# Altium integrated library Renesas Microcontroller H8S.IntLib: 670 symbols (part 12 of 70)
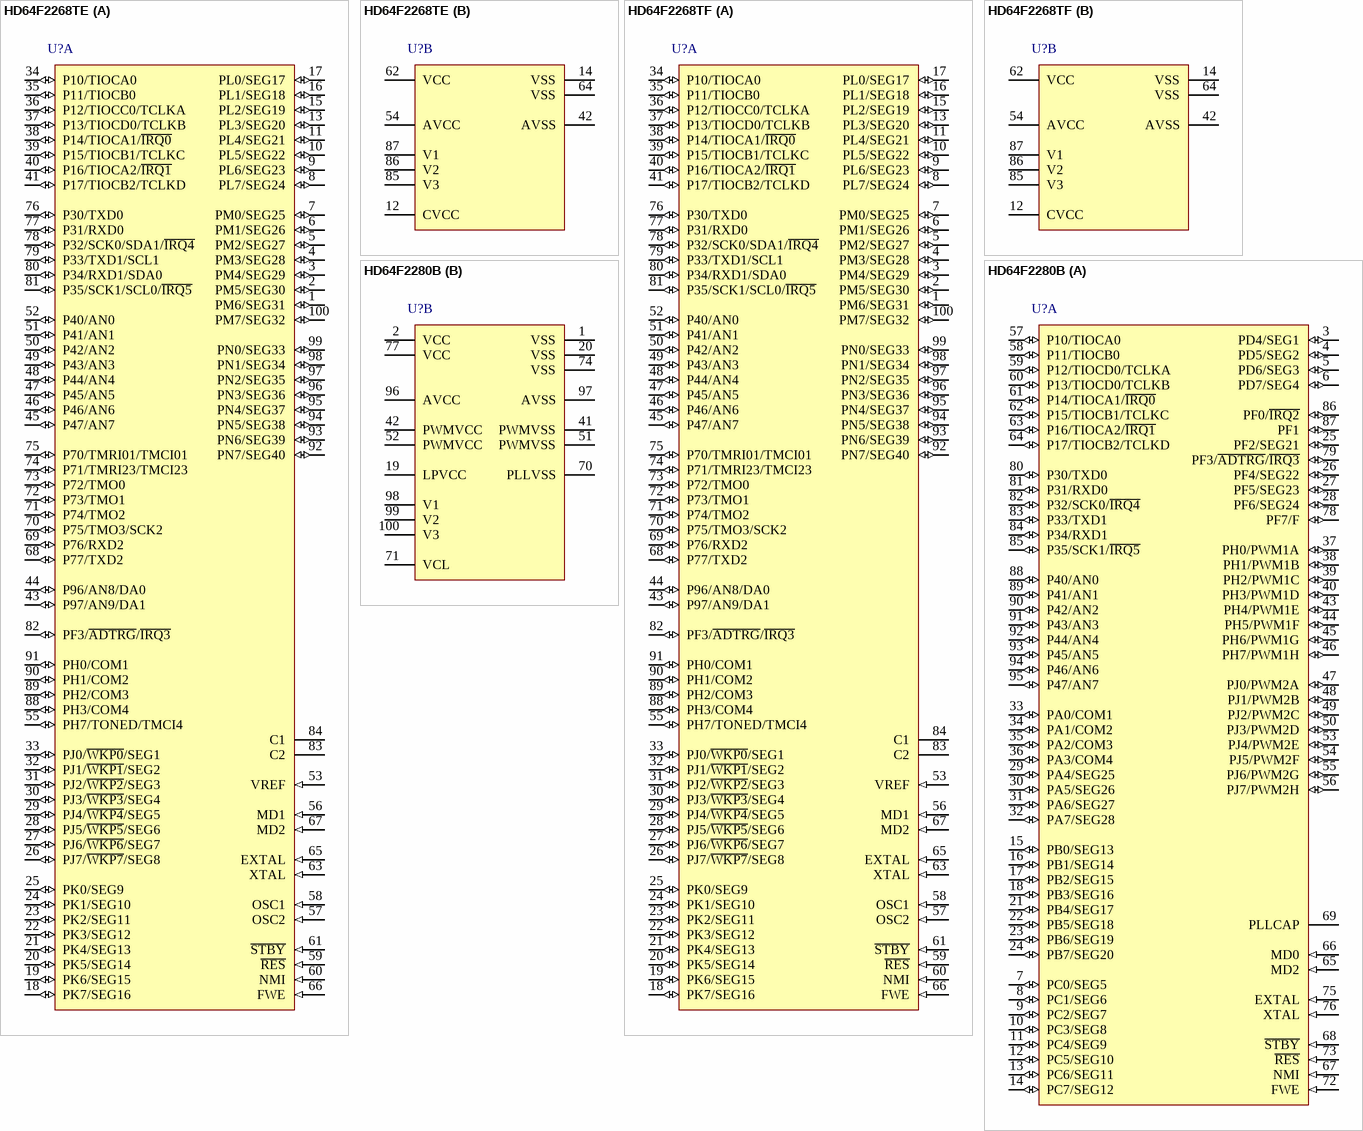
[diagram p350: symbols HD64F2268TE to HD64F2280B]

## HD64F2280B
designator U?
Flash memory H8S/2200 Series, 2280 Group MCU, 64K ROM, 2K RAM, FP-100A Pkg; Published: 28-Aug-2009; DatasheetVersion: Rev.3.00, Sep-2006; PackageVersion: Sep-2005; PackageReference: PRQP0100JE-B; Publisher: Altium Limited; PackageDescription: 100-Pin Plastic Quad Flat Pack, 20 x 14 x 2.7 mm Body, 0.65 mm Pitch; Code_JEITA: P-QFP100-14x20-0.65; ComponentLink1Description: Manufacturer Link; ComponentLink1URL: http://sg.renesas.com/fmwk.jsp?cnt=h8s_family_landing.jsp&fp=/products/mpumcu/h8s_family/; ComponentLink2Description: Datasheet; ComponentLink2URL: http://documentation.renesas.com/eng/products/mpumcu/rej09b0148_h8s2282.pdf; ComponentLink3Description: Packaging Specification; ComponentLink3URL: http://sg.renesas.com/media/products/common_info/package/pdf/ic/code/prqp0100je_b.pdf
footprint PRQP0100JE-B_N (QFP, 100-Leads, Body 20x14mm, Pitch 0.65mm, IPC Medium Density)
footprint PRQP0100JE-B_L (QFP, 100-Leads, Body 20x14mm, Pitch 0.65mm, IPC High Density)
footprint PRQP0100JE-B_M (QFP, 100-Leads, Body 20x14mm, Pitch 0.65mm, IPC Low Density)
part A pins: 3 PD4/SEG1 (io), 4 PD5/SEG2 (io), 5 PD6/SEG3 (io), 6 PD7/SEG4 (io), 7 PC0/SEG5 (io), 8 PC1/SEG6 (io), 9 PC2/SEG7 (io), 10 PC3/SEG8 (io), 11 PC4/SEG9 (io), 12 PC5/SEG10 (io), 13 PC6/SEG11 (io), 14 PC7/SEG12 (io), 15 PB0/SEG13 (io), 16 PB1/SEG14 (io), 17 PB2/SEG15 (io), 18 PB3/SEG16 (io), 21 PB4/SEG17 (io), 22 PB5/SEG18 (io), 23 PB6/SEG19 (io), 24 PB7/SEG20 (io), 25 PF2/SEG21 (io), 26 PF4/SEG22 (io), 27 PF5/SEG23 (io), 28 PF6/SEG24 (io), 29 PA4/SEG25 (io), 30 PA5/SEG26 (io), 31 PA6/SEG27 (io), 32 PA7/SEG28 (io), 33 PA0/COM1 (io), 34 PA1/COM2 (io), 35 PA2/COM3 (io), 36 PA3/COM4 (io), 37 PH0/PWM1A (io), 38 PH1/PWM1B (io), 39 PH2/PWM1C (io), 40 PH3/PWM1D (io), 43 PH4/PWM1E (io), 44 PH5/PWM1F (io), 45 PH6/PWM1G (io), 46 PH7/PWM1H (io), 47 PJ0/PWM2A (io), 48 PJ1/PWM2B (io), 49 PJ2/PWM2C (io), 50 PJ3/PWM2D (io), 53 PJ4/PWM2E (io), 54 PJ5/PWM2F (io), 55 PJ6/PWM2G (io), 56 PJ7/PWM2H (io), 57 P10/TIOCA0 (io), 58 P11/TIOCB0 (io), 59 P12/TIOCD0/TCLKA (io), 60 P13/TIOCD0/TCLKB (io), 61 P14/TIOCA1/~{IRQ0} (io), 62 P15/TIOCB1/TCLKC (io), 63 P16/TIOCA2/~{IRQ1} (io), 64 P17/TIOCB2/TCLKD (io), 65 MD2 (in), 66 MD0 (in), 67 NMI (in), 68 ~{STBY} (in), 69 PLLCAP, 72 FWE (in), 73 ~{RES} (in), 75 EXTAL (in), 76 XTAL (in), 78 PF7/F (io), 79 PF3/~{ADTRG}/~{IRQ3} (io), 80 P30/TXD0 (io), 81 P31/RXD0 (io), 82 P32/SCK0/~{IRQ4} (io), 83 P33/TXD1 (io), 84 P34/RXD1 (io), 85 P35/SCK1/~{IRQ5} (io), 86 PF0/~{IRQ2} (io), 87 PF1 (io), 88 P40/AN0 (io), 89 P41/AN1 (io), 90 P42/AN2 (io), 91 P43/AN3 (io), 92 P44/AN4 (io), 93 P45/AN5 (io), 94 P46/AN6 (io), 95 P47/AN7 (io)
part B pins: 1 VSS (power), 2 VCC (power), 19 LPVCC (power), 20 VSS (power), 41 PWMVSS (power), 42 PWMVCC (power), 51 PWMVSS (power), 52 PWMVCC (power), 70 PLLVSS (power), 71 VCL, 74 VSS (power), 77 VCC (power), 96 AVCC (power), 97 AVSS (power), 98 V1 (power), 99 V2 (power), 100 V3 (power)

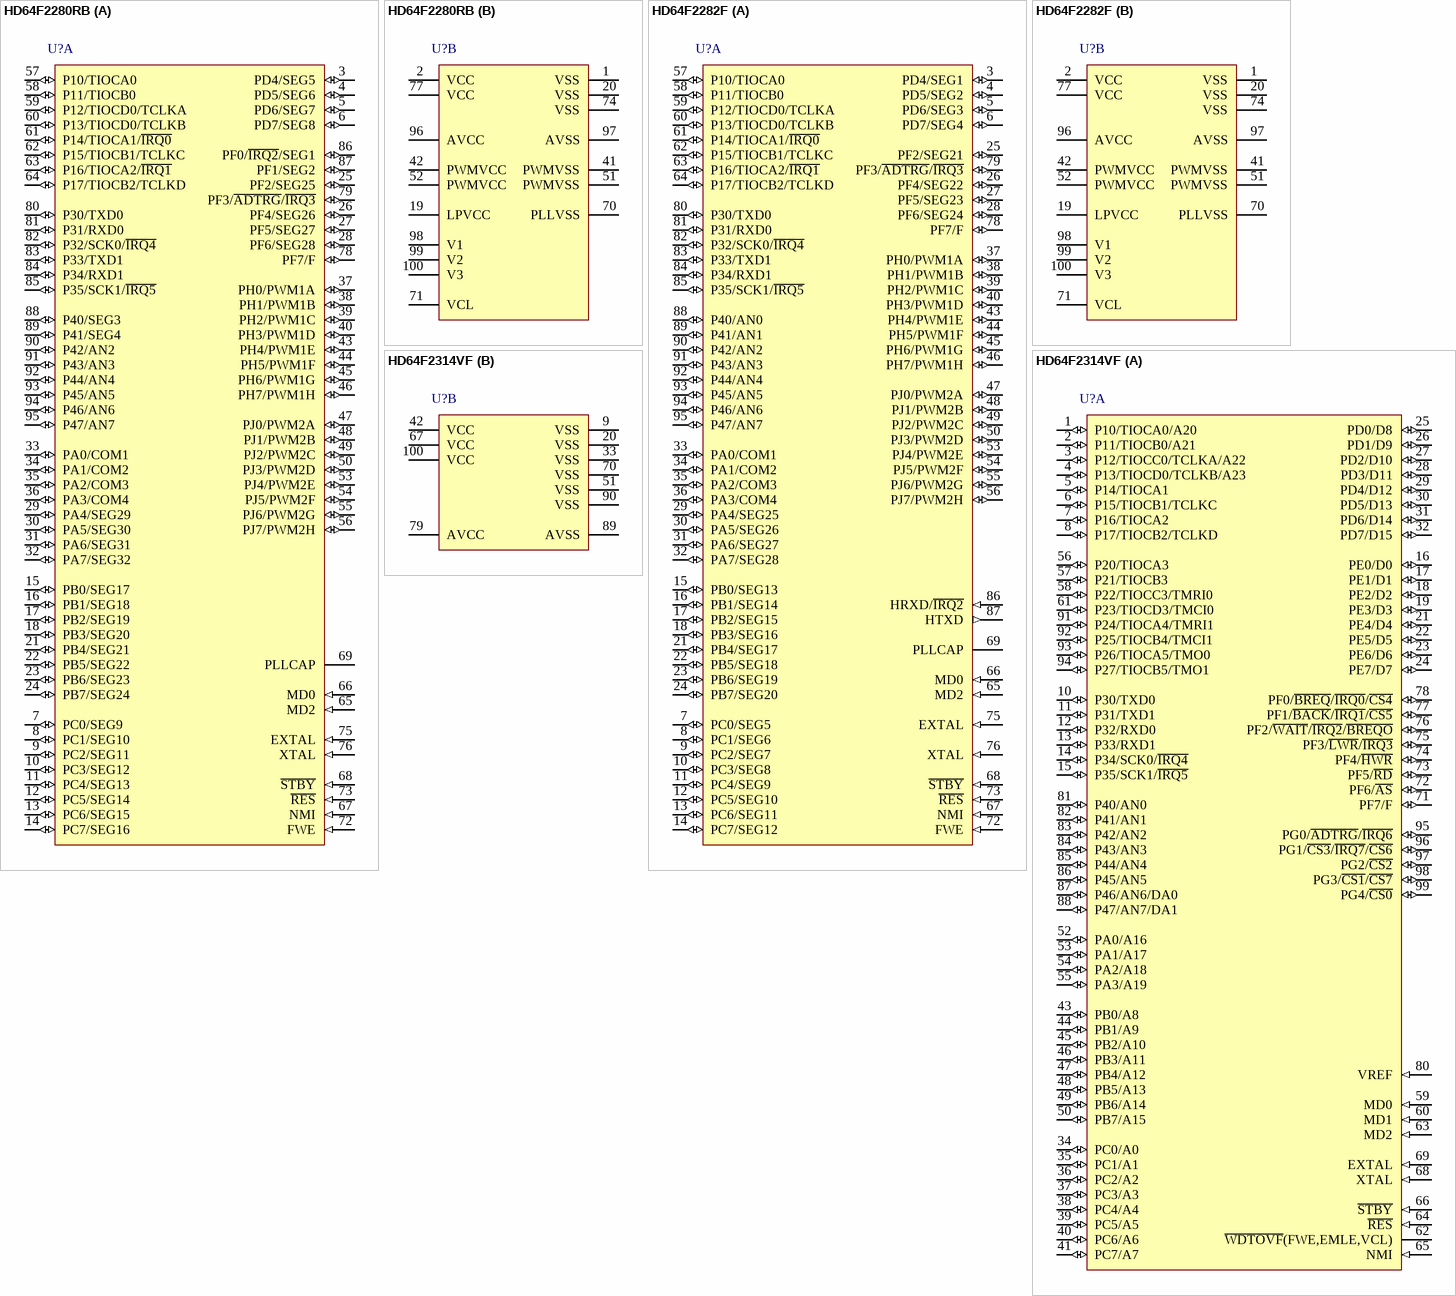
[diagram p44: symbols HD64F2280RB to HD64F2314VF]

## HD64F2280RB
designator U?
Flash memory H8S/2200 Series, 2280 Group MCU, 64K ROM, 2K RAM, FP-100A Pkg; Published: 28-Aug-2009; DatasheetVersion: Rev.3.00, Sep-2006; PackageVersion: Sep-2005; PackageReference: PRQP0100JE-B; Publisher: Altium Limited; PackageDescription: 100-Pin Plastic Quad Flat Pack, 20 x 14 x 2.7 mm Body, 0.65 mm Pitch; Code_JEITA: P-QFP100-14x20-0.65; ComponentLink1Description: Manufacturer Link; ComponentLink1URL: http://sg.renesas.com/fmwk.jsp?cnt=h8s_family_landing.jsp&fp=/products/mpumcu/h8s_family/; ComponentLink2Description: Datasheet; ComponentLink2URL: http://documentation.renesas.com/eng/products/mpumcu/rej09b0148_h8s2282.pdf; ComponentLink3Description: Packaging Specification; ComponentLink3URL: http://sg.renesas.com/media/products/common_info/package/pdf/ic/code/prqp0100je_b.pdf
footprint PRQP0100JE-B_N (QFP, 100-Leads, Body 20x14mm, Pitch 0.65mm, IPC Medium Density)
footprint PRQP0100JE-B_L (QFP, 100-Leads, Body 20x14mm, Pitch 0.65mm, IPC High Density)
footprint PRQP0100JE-B_M (QFP, 100-Leads, Body 20x14mm, Pitch 0.65mm, IPC Low Density)
part A pins: 3 PD4/SEG5 (io), 4 PD5/SEG6 (io), 5 PD6/SEG7 (io), 6 PD7/SEG8 (io), 7 PC0/SEG9 (io), 8 PC1/SEG10 (io), 9 PC2/SEG11 (io), 10 PC3/SEG12 (io), 11 PC4/SEG13 (io), 12 PC5/SEG14 (io), 13 PC6/SEG15 (io), 14 PC7/SEG16 (io), 15 PB0/SEG17 (io), 16 PB1/SEG18 (io), 17 PB2/SEG19 (io), 18 PB3/SEG20 (io), 21 PB4/SEG21 (io), 22 PB5/SEG22 (io), 23 PB6/SEG23 (io), 24 PB7/SEG24 (io), 25 PF2/SEG25 (io), 26 PF4/SEG26 (io), 27 PF5/SEG27 (io), 28 PF6/SEG28 (io), 29 PA4/SEG29 (io), 30 PA5/SEG30 (io), 31 PA6/SEG31 (io), 32 PA7/SEG32 (io), 33 PA0/COM1 (io), 34 PA1/COM2 (io), 35 PA2/COM3 (io), 36 PA3/COM4 (io), 37 PH0/PWM1A (io), 38 PH1/PWM1B (io), 39 PH2/PWM1C (io), 40 PH3/PWM1D (io), 43 PH4/PWM1E (io), 44 PH5/PWM1F (io), 45 PH6/PWM1G (io), 46 PH7/PWM1H (io), 47 PJ0/PWM2A (io), 48 PJ1/PWM2B (io), 49 PJ2/PWM2C (io), 50 PJ3/PWM2D (io), 53 PJ4/PWM2E (io), 54 PJ5/PWM2F (io), 55 PJ6/PWM2G (io), 56 PJ7/PWM2H (io), 57 P10/TIOCA0 (io), 58 P11/TIOCB0 (io), 59 P12/TIOCD0/TCLKA (io), 60 P13/TIOCD0/TCLKB (io), 61 P14/TIOCA1/~{IRQ0} (io), 62 P15/TIOCB1/TCLKC (io), 63 P16/TIOCA2/~{IRQ1} (io), 64 P17/TIOCB2/TCLKD (io), 65 MD2 (in), 66 MD0 (in), 67 NMI (in), 68 ~{STBY} (in), 69 PLLCAP, 72 FWE (in), 73 ~{RES} (in), 75 EXTAL (in), 76 XTAL (in), 78 PF7/F (io), 79 PF3/~{ADTRG}/~{IRQ3} (io), 80 P30/TXD0 (io), 81 P31/RXD0 (io), 82 P32/SCK0/~{IRQ4} (io), 83 P33/TXD1 (io), 84 P34/RXD1 (io), 85 P35/SCK1/~{IRQ5} (io), 86 PF0/~{IRQ2}/SEG1 (io), 87 PF1/SEG2 (io), 88 P40/SEG3 (io), 89 P41/SEG4 (io), 90 P42/AN2 (io), 91 P43/AN3 (io), 92 P44/AN4 (io), 93 P45/AN5 (io), 94 P46/AN6 (io), 95 P47/AN7 (io)
part B pins: 1 VSS (power), 2 VCC (power), 19 LPVCC (power), 20 VSS (power), 41 PWMVSS (power), 42 PWMVCC (power), 51 PWMVSS (power), 52 PWMVCC (power), 70 PLLVSS (power), 71 VCL, 74 VSS (power), 77 VCC (power), 96 AVCC (power), 97 AVSS (power), 98 V1 (power), 99 V2 (power), 100 V3 (power)

## HD64F2282F
designator U?
Flash memory H8S/2200 Series, 2282 Group MCU, 128K ROM, 4K RAM, FP-100A Pkg; Published: 28-Aug-2009; DatasheetVersion: Rev.3.00, Sep-2006; PackageVersion: Sep-2005; PackageReference: PRQP0100JE-B; Publisher: Altium Limited; PackageDescription: 100-Pin Plastic Quad Flat Pack, 20 x 14 x 2.7 mm Body, 0.65 mm Pitch; Code_JEITA: P-QFP100-14x20-0.65; ComponentLink1Description: Manufacturer Link; ComponentLink1URL: http://sg.renesas.com/fmwk.jsp?cnt=h8s_family_landing.jsp&fp=/products/mpumcu/h8s_family/; ComponentLink2Description: Datasheet; ComponentLink2URL: http://documentation.renesas.com/eng/products/mpumcu/rej09b0148_h8s2282.pdf; ComponentLink3Description: Packaging Specification; ComponentLink3URL: http://sg.renesas.com/media/products/common_info/package/pdf/ic/code/prqp0100je_b.pdf
footprint PRQP0100JE-B_N (QFP, 100-Leads, Body 20x14mm, Pitch 0.65mm, IPC Medium Density)
footprint PRQP0100JE-B_L (QFP, 100-Leads, Body 20x14mm, Pitch 0.65mm, IPC High Density)
footprint PRQP0100JE-B_M (QFP, 100-Leads, Body 20x14mm, Pitch 0.65mm, IPC Low Density)
part A pins: 3 PD4/SEG1 (io), 4 PD5/SEG2 (io), 5 PD6/SEG3 (io), 6 PD7/SEG4 (io), 7 PC0/SEG5 (io), 8 PC1/SEG6 (io), 9 PC2/SEG7 (io), 10 PC3/SEG8 (io), 11 PC4/SEG9 (io), 12 PC5/SEG10 (io), 13 PC6/SEG11 (io), 14 PC7/SEG12 (io), 15 PB0/SEG13 (io), 16 PB1/SEG14 (io), 17 PB2/SEG15 (io), 18 PB3/SEG16 (io), 21 PB4/SEG17 (io), 22 PB5/SEG18 (io), 23 PB6/SEG19 (io), 24 PB7/SEG20 (io), 25 PF2/SEG21 (io), 26 PF4/SEG22 (io), 27 PF5/SEG23 (io), 28 PF6/SEG24 (io), 29 PA4/SEG25 (io), 30 PA5/SEG26 (io), 31 PA6/SEG27 (io), 32 PA7/SEG28 (io), 33 PA0/COM1 (io), 34 PA1/COM2 (io), 35 PA2/COM3 (io), 36 PA3/COM4 (io), 37 PH0/PWM1A (io), 38 PH1/PWM1B (io), 39 PH2/PWM1C (io), 40 PH3/PWM1D (io), 43 PH4/PWM1E (io), 44 PH5/PWM1F (io), 45 PH6/PWM1G (io), 46 PH7/PWM1H (io), 47 PJ0/PWM2A (io), 48 PJ1/PWM2B (io), 49 PJ2/PWM2C (io), 50 PJ3/PWM2D (io), 53 PJ4/PWM2E (io), 54 PJ5/PWM2F (io), 55 PJ6/PWM2G (io), 56 PJ7/PWM2H (io), 57 P10/TIOCA0 (io), 58 P11/TIOCB0 (io), 59 P12/TIOCD0/TCLKA (io), 60 P13/TIOCD0/TCLKB (io), 61 P14/TIOCA1/~{IRQ0} (io), 62 P15/TIOCB1/TCLKC (io), 63 P16/TIOCA2/~{IRQ1} (io), 64 P17/TIOCB2/TCLKD (io), 65 MD2 (in), 66 MD0 (in), 67 NMI (in), 68 ~{STBY} (in), 69 PLLCAP, 72 FWE (in), 73 ~{RES} (in), 75 EXTAL (in), 76 XTAL (in), 78 PF7/F (io), 79 PF3/~{ADTRG}/~{IRQ3} (io), 80 P30/TXD0 (io), 81 P31/RXD0 (io), 82 P32/SCK0/~{IRQ4} (io), 83 P33/TXD1 (io), 84 P34/RXD1 (io), 85 P35/SCK1/~{IRQ5} (io), 86 HRXD/~{IRQ2} (in), 87 HTXD (out), 88 P40/AN0 (io), 89 P41/AN1 (io), 90 P42/AN2 (io), 91 P43/AN3 (io), 92 P44/AN4 (io), 93 P45/AN5 (io), 94 P46/AN6 (io), 95 P47/AN7 (io)
part B pins: 1 VSS (power), 2 VCC (power), 19 LPVCC (power), 20 VSS (power), 41 PWMVSS (power), 42 PWMVCC (power), 51 PWMVSS (power), 52 PWMVCC (power), 70 PLLVSS (power), 71 VCL, 74 VSS (power), 77 VCC (power), 96 AVCC (power), 97 AVSS (power), 98 V1 (power), 99 V2 (power), 100 V3 (power)

## HD64F2314VF
designator U?
Flash memory H8S/2300 Series, 2319 Group MCU, 384K ROM, 4K RAM, FP-100A Pkg; Published: 28-Aug-2009; DatasheetVersion: Rev.7.00, Feb-2007; PackageVersion: Sep-2005; PackageReference: PRQP0100JE-B; Publisher: Altium Limited; PackageDescription: 100-Pin Plastic Quad Flat Pack, 20 x 14 x 2.7 mm Body, 0.65 mm Pitch; Code_JEITA: P-QFP100-14x20-0.65; ComponentLink1Description: Manufacturer Link; ComponentLink1URL: http://sg.renesas.com/fmwk.jsp?cnt=h8s_family_landing.jsp&fp=/products/mpumcu/h8s_family/; ComponentLink2Description: Datasheet; ComponentLink2URL: http://documentation.renesas.com/eng/products/mpumcu/rej09b0089_h8s2319.pdf; ComponentLink3Description: Packaging Specification; ComponentLink3URL: http://sg.renesas.com/media/products/common_info/package/pdf/ic/code/prqp0100je_b.pdf
footprint PRQP0100JE-B_N (QFP, 100-Leads, Body 20x14mm, Pitch 0.65mm, IPC Medium Density)
footprint PRQP0100JE-B_L (QFP, 100-Leads, Body 20x14mm, Pitch 0.65mm, IPC High Density)
footprint PRQP0100JE-B_M (QFP, 100-Leads, Body 20x14mm, Pitch 0.65mm, IPC Low Density)
part A pins: 1 P10/TIOCA0/A20 (io), 2 P11/TIOCB0/A21 (io), 3 P12/TIOCC0/TCLKA/A22 (io), 4 P13/TIOCD0/TCLKB/A23 (io), 5 P14/TIOCA1 (io), 6 P15/TIOCB1/TCLKC (io), 7 P16/TIOCA2 (io), 8 P17/TIOCB2/TCLKD (io), 10 P30/TXD0 (io), 11 P31/TXD1 (io), 12 P32/RXD0 (io), 13 P33/RXD1 (io), 14 P34/SCK0/~{IRQ4} (io), 15 P35/SCK1/~{IRQ5} (io), 16 PE0/D0 (io), 17 PE1/D1 (io), 18 PE2/D2 (io), 19 PE3/D3 (io), 21 PE4/D4 (io), 22 PE5/D5 (io), 23 PE6/D6 (io), 24 PE7/D7 (io), 25 PD0/D8 (io), 26 PD1/D9 (io), 27 PD2/D10 (io), 28 PD3/D11 (io), 29 PD4/D12 (io), 30 PD5/D13 (io), 31 PD6/D14 (io), 32 PD7/D15 (io), 34 PC0/A0 (io), 35 PC1/A1 (io), 36 PC2/A2 (io), 37 PC3/A3 (io), 38 PC4/A4 (io), 39 PC5/A5 (io), 40 PC6/A6 (io), 41 PC7/A7 (io), 43 PB0/A8 (io), 44 PB1/A9 (io), 45 PB2/A10 (io), 46 PB3/A11 (io), 47 PB4/A12 (io), 48 PB5/A13 (io), 49 PB6/A14 (io), 50 PB7/A15 (io), 52 PA0/A16 (io), 53 PA1/A17 (io), 54 PA2/A18 (io), 55 PA3/A19 (io), 56 P20/TIOCA3 (io), 57 P21/TIOCB3 (io), 58 P22/TIOCC3/TMRI0 (io), 59 MD0 (in), 60 MD1 (in), 61 P23/TIOCD3/TMCI0 (io), 62 ~{WDTOVF}(FWE,EMLE,VCL), 63 MD2 (in), 64 ~{RES} (in), 65 NMI (in), 66 ~{STBY} (in), 68 XTAL (in), 69 EXTAL (in), 71 PF7/F (io), 72 PF6/~{AS} (io), 73 PF5/~{RD} (io), 74 PF4/~{HWR} (io), 75 PF3/~{LWR}/~{IRQ3} (io), 76 PF2/~{WAIT}/~{IRQ2}/~{BREQO} (io), 77 PF1/~{BACK}/~{IRQ1}/~{CS5} (io), 78 PF0/~{BREQ}/~{IRQ0}/~{CS4} (io), 80 VREF (in), 81 P40/AN0 (io), 82 P41/AN1 (io), 83 P42/AN2 (io), 84 P43/AN3 (io), 85 P44/AN4 (io), 86 P45/AN5 (io), 87 P46/AN6/DA0 (io), 88 P47/AN7/DA1 (io), 91 P24/TIOCA4/TMRI1 (io), 92 P25/TIOCB4/TMCI1 (io), 93 P26/TIOCA5/TMO0 (io), 94 P27/TIOCB5/TMO1 (io), 95 PG0/~{ADTRG}/~{IRQ6} (io), 96 PG1/~{CS3}/~{IRQ7}/~{CS6} (io), 97 PG2/~{CS2} (io), 98 PG3/~{CS1}/~{CS7} (io), 99 PG4/~{CS0} (io)
part B pins: 9 VSS (power), 20 VSS (power), 33 VSS (power), 42 VCC (power), 51 VSS (power), 67 VCC (power), 70 VSS (power), 79 AVCC (power), 89 AVSS (power), 90 VSS (power), 100 VCC (power)

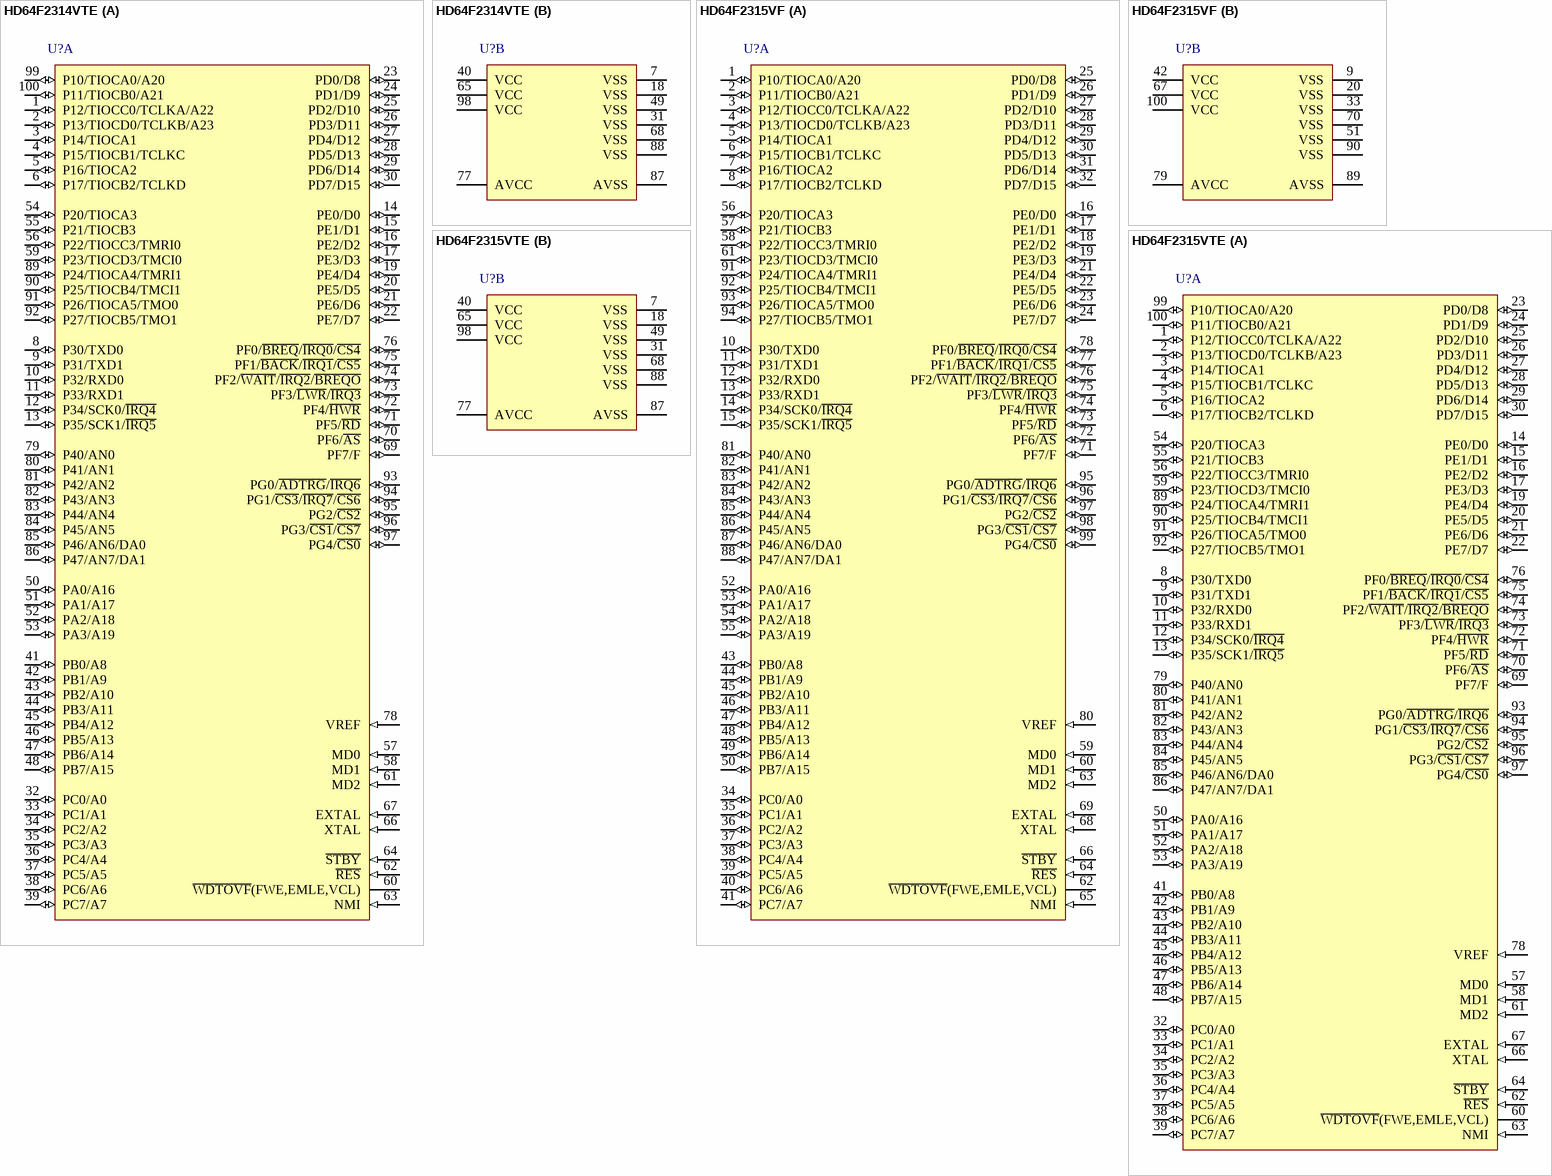
[diagram p45: symbols HD64F2314VTE to HD64F2315VTE]

## HD64F2314VTE
designator U?
Flash memory H8S/2300 Series, 2319 Group MCU, 384K ROM, 4K RAM, TFP-100B Pkg; Published: 28-Aug-2009; DatasheetVersion: Rev.7.00, Feb-2007; PackageVersion: Sep-2005; PackageReference: PTQP0100KA-A; Publisher: Altium Limited; PackageDescription: 100-Pin Plastic Thin Quad Flat Pack, 14 x 14 x 1.0 mm Body, 0.5 mm Pitch; Code_JEITA: P-TQFP100-14x14-0.50; ComponentLink1Description: Manufacturer Link; ComponentLink1URL: http://sg.renesas.com/fmwk.jsp?cnt=h8s_family_landing.jsp&fp=/products/mpumcu/h8s_family/; ComponentLink2Description: Datasheet; ComponentLink2URL: http://documentation.renesas.com/eng/products/mpumcu/rej09b0089_h8s2319.pdf; ComponentLink3Description: Packaging Specification; ComponentLink3URL: http://sg.renesas.com/media/products/common_info/package/pdf/ic/code/ptqp0100ka_a.pdf
footprint PTQP0100KA-A_N (Thin QFP, 100-Leads, Body 14x14mm, Pitch 0.5mm, IPC Medium Density)
footprint PTQP0100KA-A_L (Thin QFP, 100-Leads, Body 14x14mm, Pitch 0.5mm, IPC High Density)
footprint PTQP0100KA-A_M (Thin QFP, 100-Leads, Body 14x14mm, Pitch 0.5mm, IPC Low Density)
part A pins: 1 P12/TIOCC0/TCLKA/A22 (io), 2 P13/TIOCD0/TCLKB/A23 (io), 3 P14/TIOCA1 (io), 4 P15/TIOCB1/TCLKC (io), 5 P16/TIOCA2 (io), 6 P17/TIOCB2/TCLKD (io), 8 P30/TXD0 (io), 9 P31/TXD1 (io), 10 P32/RXD0 (io), 11 P33/RXD1 (io), 12 P34/SCK0/~{IRQ4} (io), 13 P35/SCK1/~{IRQ5} (io), 14 PE0/D0 (io), 15 PE1/D1 (io), 16 PE2/D2 (io), 17 PE3/D3 (io), 19 PE4/D4 (io), 20 PE5/D5 (io), 21 PE6/D6 (io), 22 PE7/D7 (io), 23 PD0/D8 (io), 24 PD1/D9 (io), 25 PD2/D10 (io), 26 PD3/D11 (io), 27 PD4/D12 (io), 28 PD5/D13 (io), 29 PD6/D14 (io), 30 PD7/D15 (io), 32 PC0/A0 (io), 33 PC1/A1 (io), 34 PC2/A2 (io), 35 PC3/A3 (io), 36 PC4/A4 (io), 37 PC5/A5 (io), 38 PC6/A6 (io), 39 PC7/A7 (io), 41 PB0/A8 (io), 42 PB1/A9 (io), 43 PB2/A10 (io), 44 PB3/A11 (io), 45 PB4/A12 (io), 46 PB5/A13 (io), 47 PB6/A14 (io), 48 PB7/A15 (io), 50 PA0/A16 (io), 51 PA1/A17 (io), 52 PA2/A18 (io), 53 PA3/A19 (io), 54 P20/TIOCA3 (io), 55 P21/TIOCB3 (io), 56 P22/TIOCC3/TMRI0 (io), 57 MD0 (in), 58 MD1 (in), 59 P23/TIOCD3/TMCI0 (io), 60 ~{WDTOVF}(FWE,EMLE,VCL), 61 MD2 (in), 62 ~{RES} (in), 63 NMI (in), 64 ~{STBY} (in), 66 XTAL (in), 67 EXTAL (in), 69 PF7/F (io), 70 PF6/~{AS} (io), 71 PF5/~{RD} (io), 72 PF4/~{HWR} (io), 73 PF3/~{LWR}/~{IRQ3} (io), 74 PF2/~{WAIT}/~{IRQ2}/~{BREQO} (io), 75 PF1/~{BACK}/~{IRQ1}/~{CS5} (io), 76 PF0/~{BREQ}/~{IRQ0}/~{CS4} (io), 78 VREF (in), 79 P40/AN0 (io), 80 P41/AN1 (io), 81 P42/AN2 (io), 82 P43/AN3 (io), 83 P44/AN4 (io), 84 P45/AN5 (io), 85 P46/AN6/DA0 (io), 86 P47/AN7/DA1 (io), 89 P24/TIOCA4/TMRI1 (io), 90 P25/TIOCB4/TMCI1 (io), 91 P26/TIOCA5/TMO0 (io), 92 P27/TIOCB5/TMO1 (io), 93 PG0/~{ADTRG}/~{IRQ6} (io), 94 PG1/~{CS3}/~{IRQ7}/~{CS6} (io), 95 PG2/~{CS2} (io), 96 PG3/~{CS1}/~{CS7} (io), 97 PG4/~{CS0} (io), 99 P10/TIOCA0/A20 (io), 100 P11/TIOCB0/A21 (io)
part B pins: 7 VSS (power), 18 VSS (power), 31 VSS (power), 40 VCC (power), 49 VSS (power), 65 VCC (power), 68 VSS (power), 77 AVCC (power), 87 AVSS (power), 88 VSS (power), 98 VCC (power)